# Altium integrated library HX JN1.27-2x5P ZZ H4.9.IntLib: 1 symbol
Pins are listed as number, name and electrical type; pins without a type are passive.

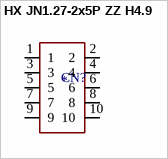
[diagram p0: symbol HX JN1.27-2x5P ZZ H4.9]

## HX JN1.27-2x5P ZZ H4.9
designator CN?  (value not drawn)
IDC Connectors. -40C~+105C 1.27mm 1.27mm 1A 2 2x5P 5 500V Black Copper Gold IDC Header Through Hole Plugin,P=1.27mm IDC Connectors ROHS; Manufacturer: hanxia; Component Type: Connectors; Design Item ID: HX JN1.27-2x5P ZZ H4.9; Value: *; JLCPCB Part #: C42372547; Manufacturer Part Number: HX JN1.27-2x5P ZZ H4.9
footprint HX JN1.27-2x5P ZZ H4.9 (CONN-TH_10P-P1.27_HX-JN1.27-2X5P-ZZ-H4.9)
pins: 1, 2, 3, 4, 5, 6, 7, 8, 9, 10